# EAGLE library part FFC/FPC14 (library vikc-connector)
FFc/FPC 14 Position 0.5m Pitch Connector
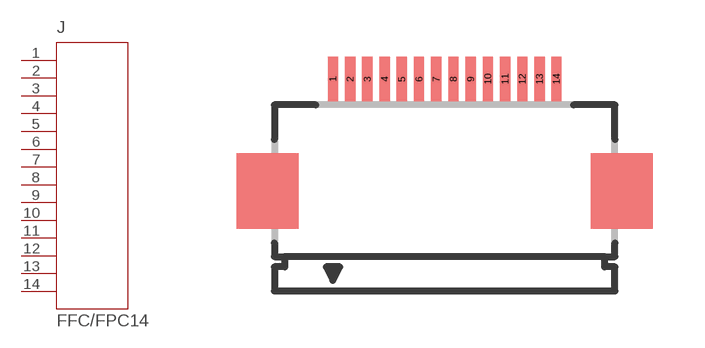
[diagram p14: symbol with the pads of FH12-14S-0.5SH; footprint FH12-14S-0.5SH]

Designator prefix J

## FFC/FPC14  [FH12-14S-0.5SH]
1  P$1
2  P$2
3  P$3
4  P$4
5  P$5
6  P$6
7  P$7
8  P$8
9  P$9
10  P$10
11  P$11
12  P$12
13  P$13
14  P$14

## Footprint FH12-14S-0.5SH (pad centres in mm)
0.5mm Pitch Connectors For FPC/FFC Source: Data sheet <http://www.hirose.co.jp/cataloge_hp/e58605370.pdf>
smd 0.3 x 1.3: 1 -3.25,3.25; 2 -2.75,3.25; 3 -2.25,3.25; 4 -1.75,3.25; 5 -1.25,3.25; 6 -0.75,3.25; 7 -0.25,3.25; 8 0.25,3.25; 9 0.75,3.25; 10 1.25,3.25; 11 1.75,3.25; 12 2.25,3.25; 13 2.75,3.25; 14 3.24,3.25